# Altium footprint library RodManipulator_PCB.PcbLib: 15 footprints
Each footprint in its own frame and in the unit in brackets; x right, y up, seen from the top. Pads: shape width x height; smd on the part's side, far side on the other; paste and mask are expansions set on the pad; w line width, h text height; cw(c..) or ccw(c..) is an arc to the next point about the centre after c.
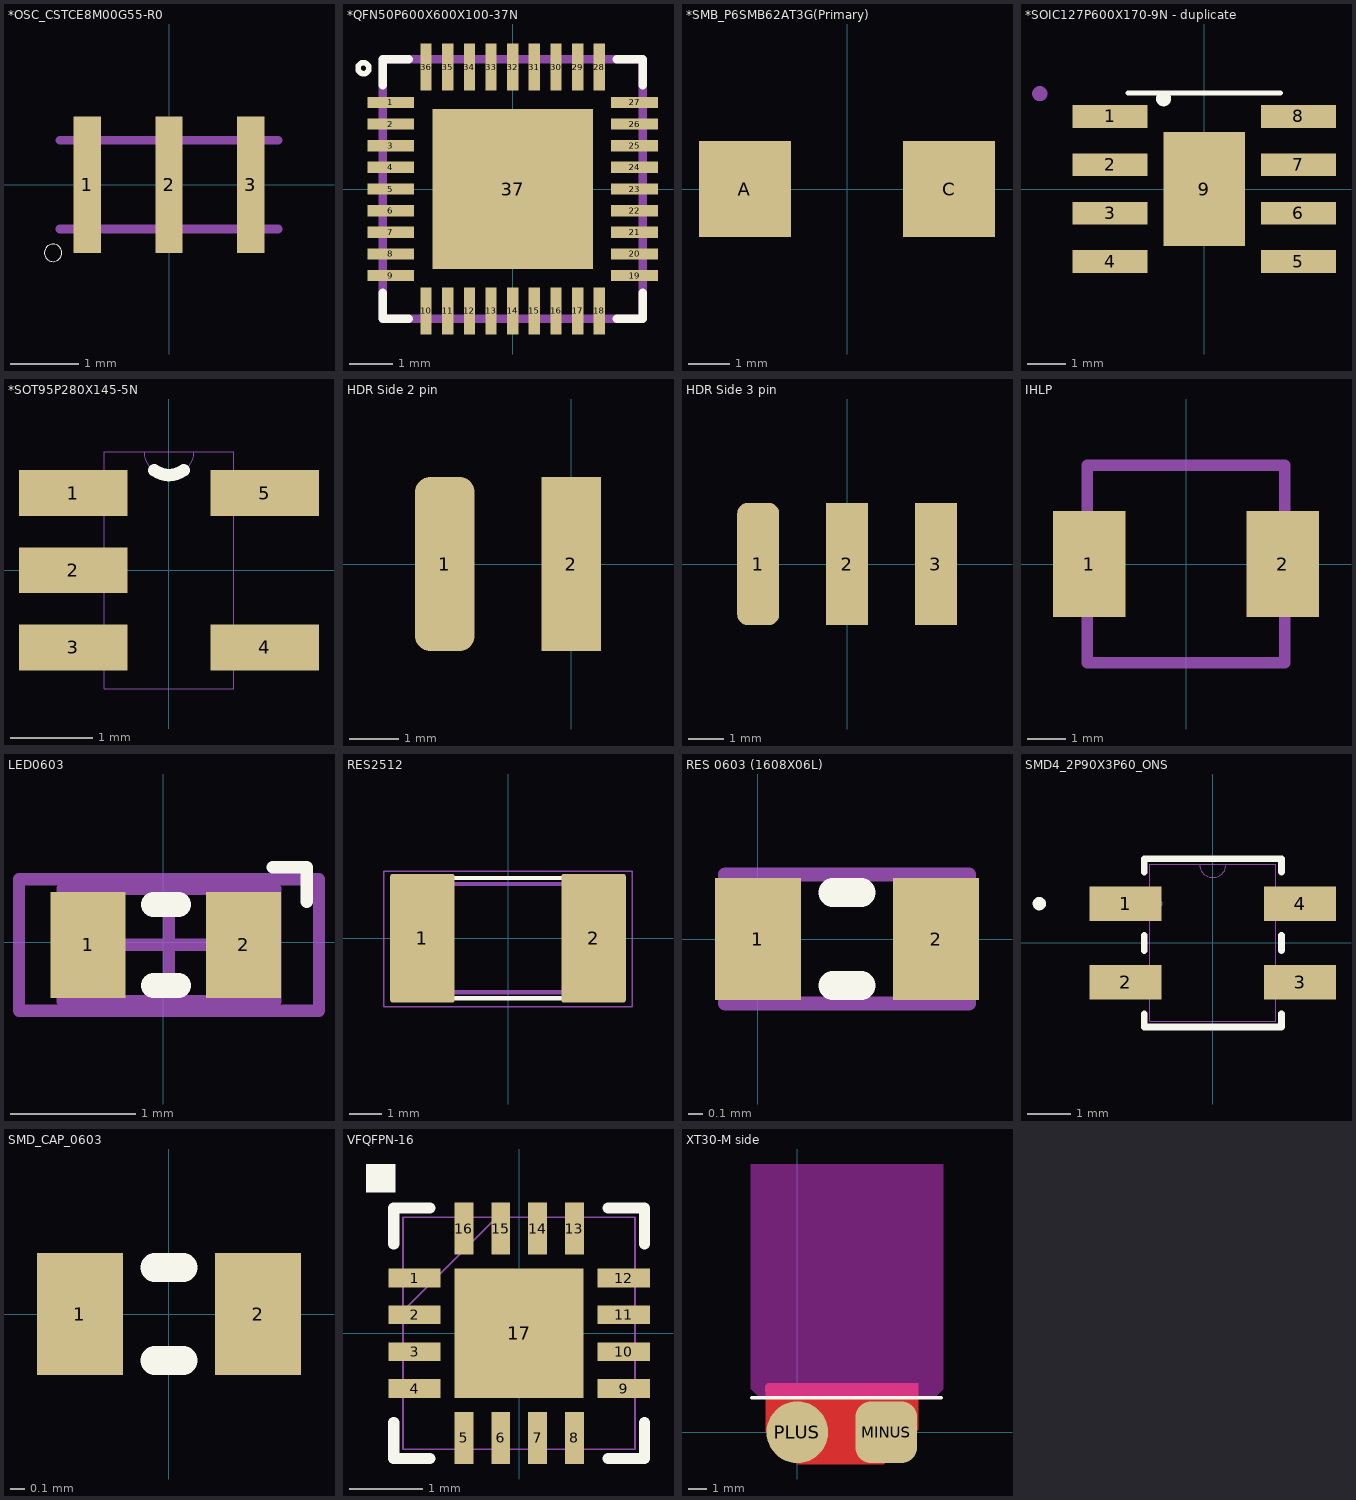
[diagram p0: the footprints below, top view; thin cyan lines are the x and y axes]

## *OSC_CSTCE8M00G55-R0 [mm]
pads (3):
  rect 0.4x2 smd: 1(-1.2,0) 2(0,0) 3(1.2,0)
Top Overlay:
  circle w0: c-1.7,-1 r0.127
Mechanical 4:
  lines w0.127: -1.6,-0.65 1.6,-0.65 -1.6,-0.65 ; -1.6,0.65 1.6,0.65 -1.6,0.65
3D body "CSTCE12M0G15L99-R0--3DModel-STEP-56544.STEP": height 1, standoff 0, extent -1.6,-0.65 1.6,0.65

## *QFN50P600X600X100-37N [mm]
pads (37):
  rect 1.08x0.26 smd: 1(-2.815,2) 2(-2.815,1.5) 3(-2.815,1) 4(-2.815,0.5) 5(-2.815,0) 6(-2.815,-0.5) 7(-2.815,-1) 8(-2.815,-1.5) 9(-2.815,-2) 19(2.815,-2) 20(2.815,-1.5) 21(2.815,-1) 22(2.815,-0.5) 23(2.815,0) 24(2.815,0.5) 25(2.815,1) 26(2.815,1.5) 27(2.815,2)
  rect 0.26x1.08 smd: 10(-2,-2.815) 11(-1.5,-2.815) 12(-1,-2.815) 13(-0.5,-2.815) 14(0,-2.815) 15(0.5,-2.815) 16(1,-2.815) 17(1.5,-2.815) 18(2,-2.815) 28(2,2.815) 29(1.5,2.815) 30(1,2.815) 31(0.5,2.815) 32(0,2.815) 33(-0.5,2.815) 34(-1,2.815) 35(-1.5,2.815) 36(-2,2.815)
  rect 3.7x3.7 smd: 37(0,0)
Top Overlay:
  circle w0.127: c-3.446,2.79 r0.127
  lines w0.2: -3,-2.4 -3,-3 -2.4,-3 ; -3,2.4 -3,3 -2.4,3 ; 2.4,-3 3,-3 3,-2.4 ; 2.4,3 3,3 3,2.4
Top Paste:
  region: -1.227,1.17 1.17,1.17 1.17,-1.227 -1.227,-1.227
Mechanical 4:
  lines w0.127: -3,-3 -3,3 -3,-3
  lines w0.2: -3,-3 3,-3 ; -3,-3 -3,3 ; -3,-3 3,-3 ; -3,-3 -3,3 ; -3,3 3,3 ; -3,3 3,3 ; 3,-3 3,3 ; 3,-3 3,3
3D body "STM32F103TBU6--3DModel-STEP-56544.STEP": height 1, standoff 0, extent -3,-3 3,3

## *SMB_P6SMB62AT3G(Primary) [mm]
pads (2):
  rect 2.2x2.3 smd: A(-2.45,0) C(2.45,0)
3D body "MBRS360BT3G--3DModel-STEP-56544.STEP": height 2.49, standoff 0.02, extent -2.72,-1.78 2.72,1.78

## *SOIC127P600X170-9N - duplicate [mm]
pads (9):
  rect 1.97x0.6 smd: 1(-2.475,1.905) 2(-2.475,0.635) 3(-2.475,-0.635) 4(-2.475,-1.905) 5(2.475,-1.905) 6(2.475,-0.635) 7(2.475,0.635) 8(2.475,1.905)
  rect 2.13x3 smd: 9(0,0)
Top Overlay:
  circle w0.2: c-1.07,2.373 r0.1
  lines w0.127: -2,2.525 2,2.525
Top Paste:
  region: 0.12,-0.12 0.82,-0.12 0.82,-1.26 0.12,-1.26
  region: -0.82,-0.12 -0.12,-0.12 -0.12,-1.26 -0.82,-1.26
  region: 0.12,1.26 0.82,1.26 0.82,0.12 0.12,0.12
  region: -0.82,1.26 -0.12,1.26 -0.12,0.12 -0.82,0.12
Top Solder:
  region: -1.05,2.445 1.05,2.445 1.05,-2.3 -1.05,-2.3
Mechanical 4:
  circle w0.2: c-4.32,2.505 r0.1
  circle w0.2: c-4.32,2.505 r0.1
3D body "TPS54340DDA--3DModel-STEP-56544.STEP": height 1.69, standoff -0.01, extent -3,-2.45 3,2.45

## *SOT95P280X145-5N [mil]
pads (5):
  rect 52x22 smd: 1(-46,37) 2(-46,0) 3(-46,-37) 4(46,-37) 5(46,37)
Top Overlay:
  lines w6: -7,48 ccw(c0,56.96) 7,48 cw(c0,56.96) -7,48
Mechanical 4:
  lines w0: -55,-47 -55,-28 ; -55,-47 -31,-47 ; -55,-47 -55,-28 ; -55,-47 -31,-47 ; -55,-28 -31,-28 ; -55,-28 -31,-28 ; -55,-10 -55,10 ; -55,-10 -31,-10 ; -55,-10 -55,10 ; -55,-10 -31,-10 ; -55,10 -31,10 ; -55,10 -31,10 ; -55,28 -55,47 ; -55,28 -31,28 ; -55,28 -55,47 ; -55,28 -31,28 ; -55,47 -31,47 ; -55,47 -31,47 ; -31,-57 -31,-47 ; -31,-57 31,-57 ; -31,-57 -31,-47 ; -31,-57 31,-57 ; -31,-47 -31,-28 ; -31,-47 -31,-28 ; -31,-28 -31,-10 ; -31,-28 -31,-10 ; -31,-10 -31,10 ; -31,-10 -31,10 ; -31,10 -31,28 ; -31,10 -31,28 ; -31,28 -31,47 ; -31,28 -31,47 ; -31,47 -31,57 ; -31,47 -31,57 ; -31,57 -12,57 ; -31,57 -12,57 ; -12,57 ccw(c0,57) 12,57 ; -12,57 ccw(c0,57) 12,57 ; -12,57 ccw(c0,57) 12,57 ; -12,57 ccw(c0,57) 12,57 ; -12,57 12,57 ; -12,57 12,57 ; 12,57 31,57 ; 12,57 31,57 ; 31,-57 31,-47 ; 31,-57 31,-47 ; 31,-47 31,-28 ; 31,-47 55,-47 ; 31,-47 31,-28 ; 31,-47 55,-47 ; 31,-28 31,28 ; 31,-28 55,-28 ; 31,-28 31,28 ; 31,-28 55,-28 ; 31,28 31,47 ; 31,28 55,28 ; 31,28 31,47 ; 31,28 55,28 ; 31,47 31,57 ; 31,47 55,47 ; 31,47 31,57 ; 31,47 55,47 ; 55,-47 55,-28 ; 55,-47 55,-28 ; 55,28 55,47 ; 55,28 55,47
3D body "TPS73225DBVR--3DModel-STEP-56544.STEP": height 56.73, standoff -0.35, extent -55.11,-57.09 55.12,57.08

## HDR Side 2 pin [mm]
pads (2):
  rrect50% 1.2x3.5 smd: 1(-2.54,0)
  rect 1.2x3.5 smd: 2(0,0)
3D body "1x2 TH Vert 100mil.step": height 1.62, standoff -0.92, extent -3.87,-10.37 1.21,1.31

## HDR Side 3 pin [mm]
pads (3):
  rrect50% 1.2x3.5 smd: 1(-2.54,0)
  rect 1.2x3.5 smd: 2(0,0) 3(2.54,0)
3D body "c-146282-3-f-3d.stp": height 1.67, standoff -0.67, extent -3.607,-10.342 3.607,0.834

## IHLP [mil]
pads (2):
  rect 75x110 smd: 1(-100,0) 2(100,0)
Mechanical 13:
  lines w12: -102,-102 102,-102 102,102 -102,102 -102,-102
3D body: height 78.74, standoff 0, extent -100,-100 100,100

## LED0603 [mm]
height 1
pads (2):
  rect 0.6x0.85 smd: 1(-0.6,-0.021) 2(0.644,-0.021)
Top Overlay:
  lines w0.1: 0.875,0.6 1.15,0.6 1.15,0.325
  lines w0.2: -0.078,-0.346 0.122,-0.346 ; -0.078,0.304 0.122,0.304
Mechanical 13:
  lines w0.1: -0.803,-0.471 0.897,-0.471 0.897,0.429 -0.803,0.429 -0.803,-0.471
Mechanical 15:
  lines w0.1: -0.403,-0.021 0.497,-0.021 ; 0.047,-0.471 0.047,0.429 ; -1.153,-0.546 1.247,-0.546 1.247,0.504 -1.153,0.504 -1.153,-0.546
3D body "LED 0603.STEP": height 0.9, standoff 0, extent -0.825,-0.475 0.875,0.425

## RES2512 [mm]
pads (2):
  rrect7% 2x4 smd: 1(-2.66,0) 2(2.66,0)
Top Overlay:
  lines w0.127: -3.15,-1.865 3.15,-1.865 ; -3.15,1.865 3.15,1.865
Mechanical 13:
  lines w0.127: -3.25,-1.68 3.25,-1.68 3.25,1.68 -3.25,1.68 -3.25,-1.68
Mechanical 15:
  lines w0.05: -3.86,-2.125 3.86,-2.125 3.86,2.075 -3.86,2.075 -3.86,-2.125
3D body "rsmd-2512_l6-35_w3-2_h0-55.stp": height 0.55, standoff 0, extent -3.175,-1.6 3.175,1.6

## RES 0603 (1608X06L) [mm] "Chip Resistor, 2-Leads, Body 1.6x0.8mm, IPC High Density _ (0.063W)"
height 0.6
pads (2):
  rect 0.6x0.85 smd: 1(0,0) 2(1.244,0)
Top Overlay:
  lines w0.2: 0.522,-0.325 0.722,-0.325 ; 0.522,0.325 0.722,0.325
Mechanical 13:
  lines w0.1: -0.228,-0.45 -0.228,0.45 1.472,0.45 1.472,-0.45 -0.228,-0.45
3D body "0603.STEP": height 0.45, standoff 0, extent -0.14,-0.381 1.384,0.381

## SMD4_2P90X3P60_ONS [mm]
pads (4):
  rect 1.651x0.787 smd paste+0 mask+0: 1(-2,0.9) 2(-2,-0.9) 3(2,-0.9) 4(2,0.9)
Top Overlay:
  circle w0.152: c-3.979,0.9 r0.076
  lines w0.152: -1.575,-1.626 -1.575,-1.93 1.575,-1.93 1.575,-1.626 ; -1.575,-0.174 -1.575,0.174 ; -1.575,1.626 -1.575,1.93 1.575,1.93 1.575,1.626 ; 1.575,-0.174 1.575,0.174
Mechanical 13:
  circle w0: c-1.194,0.9 r0.038
  lines w0: -0.305,1.803 ccw(c0,1.803) 0.305,1.803
  lines w0.025: -1.448,-1.803 1.448,-1.803 1.448,1.803 -1.448,1.803 -1.448,-1.803
3D body: height 0.25, standoff 0, extent 0,0 0.254,0.254
3D body "SMD4_2P90X3P60_ONS.step": height 1.88, standoff 0, extent -2.475,-1.803 2.475,1.803

## SMD_CAP_0603 [mm]
pads (2):
  rect 0.6x0.85 smd: 1(-0.622,0) 2(0.622,0)
Top Overlay:
  lines w0.2: -0.1,-0.325 0.1,-0.325 ; -0.1,0.325 0.1,0.325
3D body "cap 0603.STEP": height 0.6, standoff 0, extent -0.762,-0.381 0.762,0.381

## VFQFPN-16 [mm]
pads (17):
  rect 0.708x0.255 smd paste+0 mask+0: 1(-1.421,0.75) 2(-1.421,0.25) 3(-1.421,-0.25) 4(-1.421,-0.75) 9(1.421,-0.75) 10(1.421,-0.25) 11(1.421,0.25) 12(1.421,0.75)
  rect 0.255x0.708 smd paste+0 mask+0: 5(-0.75,-1.421) 6(-0.25,-1.421) 7(0.25,-1.421) 8(0.75,-1.421) 13(0.75,1.421) 14(0.25,1.421) 15(-0.25,1.421) 16(-0.75,1.421)
  rect 1.753x1.753 smd paste+0 mask+0: 17(0,0)
Top Overlay:
  region: -2.078,2.298 -1.681,2.298 -1.681,1.917 -2.078,1.917
  lines w0.152: -1.702,-1.21 -1.702,-1.702 -1.21,-1.702 ; -1.702,1.21 -1.702,1.702 -1.21,1.702 ; 1.21,-1.702 1.702,-1.702 1.702,-1.21 ; 1.21,1.702 1.702,1.702 1.702,1.21
Mechanical 13:
  lines w0.025: -1.575,0.305 -0.305,1.575 ; -1.575,-1.575 -1.575,1.575 1.575,1.575 1.575,-1.575 -1.575,-1.575
3D body "VFQFPN-16_STM.step": height 0.94, standoff 0, extent -1.575,-1.575 1.575,1.575
3D body: height 0.25, standoff 0, extent 0,0 0.254,0.254

## XT30-M side [mm]
pads (2):
  rrect50% 3.4x3.4 smd: MINUS(4.9,0)
  round 3.4 smd: PLUS(0,0)
Top Layer:
  pour cut-out: -1.75,1.9 -1.75,0 0,-1.75 4.775,-1.75 6.65,0.125 6.65,2.7 -1.625,2.7 -1.775,2.55
Top Overlay:
  lines w0.2: -2.5,1.9 7.925,1.9
Keep-Out Layer:
  board cut-out: -2.575,14.775 -2.575,2.4 -2.075,1.9 7.575,1.9 8.05,2.375 8.05,14.775
3D body "XT30-M.STEP": height 4, standoff -1.3, extent -2.475,-0.8 7.925,14.7